# Altium integrated library NODEMCU_DEVKIT_V1.0.IntLib: 13 symbols
Pins are listed as number, name and electrical type; pins without a type are passive.

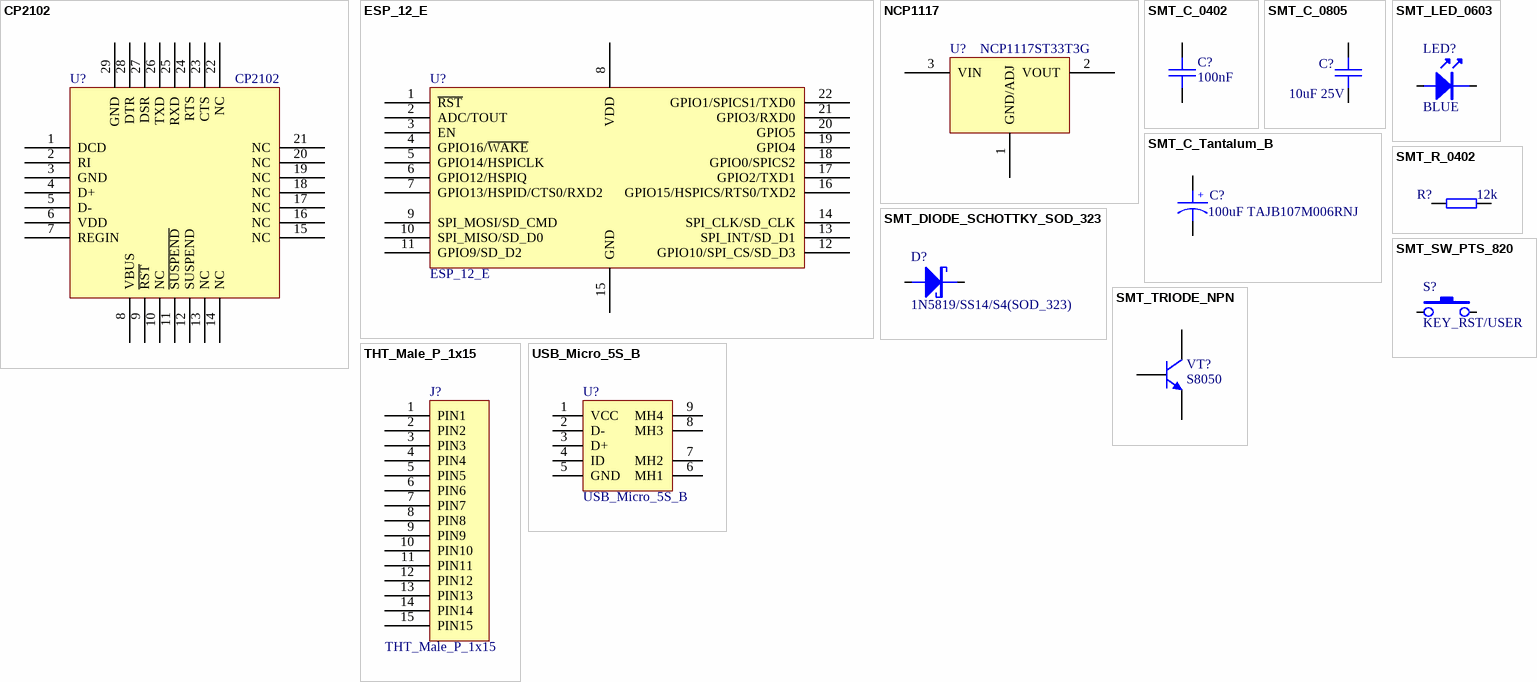
[diagram p0: symbols CP2102 to USB_Micro_5S_B]

## CP2102
designator U?
footprint CP2102
pins: 1 DCD, 2 RI, 3 GND, 4 D+, 5 D-, 6 VDD, 7 REGIN, 8 VBUS, 9 ~{RST}, 10 NC, 11 ~{SUSPEND}, 12 SUSPEND, 13 NC, 14 NC, 15 NC, 16 NC, 17 NC, 18 NC, 19 NC, 20 NC, 21 NC, 22 NC, 23 CTS, 24 RTS, 25 RXD, 26 TXD, 27 DSR, 28 DTR, 29 GND

## ESP_12_E
designator U?
ESP-12 Wi-Fi Module by AI-Thinker; IC: ESP8266-EX; Vendor: Ai-thinker
footprint ESP_12_E (ESP-12 Wi-Fi Module by AI-Thinker)
footprint ESP_12_E_L (ESP-12 Wi-Fi Module by AI-Thinker)
pins: 1 ~{RST} "Reset", 2 ADC/TOUT "ADC Input Or TOUT Output", 3 EN "Chip enable", 4 GPIO16/~{WAKE} "GPIO16 or Deep-Sleep Wakeup", 5 GPIO14/HSPICLK "GPIO14 or SPI CLK", 6 GPIO12/HSPIQ "GPIO12 or SPIQ", 7 GPIO13/HSPID/CTS0/RXD2 "GPIO13 or SPID", 8 VDD "Power supply", 9 SPI_MOSI/SD_CMD "GPIO14 or SPI CLK", 10 SPI_MISO/SD_D0 "GPIO12 or SPIQ", 11 GPIO9/SD_D2 "GPIO13 or SPID", 12 GPIO10/SPI_CS/SD_D3 "GPIO15 or SPICS", 13 SPI_INT/SD_D1 "GPIO2 or TX", 14 SPI_CLK/SD_CLK "GPIO0 or SPICS2", 15 GND "Power ground", 16 GPIO15/HSPICS/RTS0/TXD2 "GPIO15 or SPICS", 17 GPIO2/TXD1 "GPIO2 or TX", 18 GPIO0/SPICS2 "GPIO0 or SPICS2", 19 GPIO4 "GPIO5", 20 GPIO5 "GPIO4", 21 GPIO3/RXD0 "GPIO3 or UART RXD", 22 GPIO1/SPICS1/TXD0 "GPIO1 or UART TXD"

## NCP1117
designator U?, comment NCP1117ST33T3G
NCP1117, NCV1117. 1.0 A Low-Dropout Positive  Fixed and Adjustable  Voltage Regulators
footprint SOT-223 (3 LEAD SOT-223 PLASTIC PACKAGE)
pins: 1 GND/ADJ "Ground or Adjust", 2 VOUT "Voltage Output", 3 VIN "Voltage Input"

## SMT_C_0402
designator C?, comment 100nF
Surface mount capacitor 0402
footprint SMT_C_0402 (Surface mount capacitor 0402)
pins: 1, 2

## SMT_C_0805
designator C?, comment 10uF 25V
Surface mount capacitor 0805
footprint SMT_C_0805 (Surface mount capacitor 0805)
pins: 1, 2

## SMT_C_Tantalum_B
designator C?, comment 100uF TAJB107M006RNJ
Capacitor, SM Tantalum; Body 3.5 x 2.8 mm (LxW typ)
footprint SMT_C_Tantalum_B (Capacitor, SM Tantalum; Body 3.5 x 2.8 mm (LxW typ))
pins: 1, 2
text: +

## SMT_DIODE_SCHOTTKY_SOD_323
designator D?, comment 1N5819/SS14/S4(SOD_323)
Surface mount schottky diode SOD-323(0805) Package
footprint SMT_DIODE_SOD_323 (SOD-323(0805) Package)
pins: 1 A, 2 K

## SMT_LED_0603
designator LED?, comment BLUE
SMT LED
footprint SMT_LED_0603 (SMT LED)
pins: 1 A, 2 K

## SMT_R_0402
designator R?, comment 12k
Surface mount resistor 0402
footprint SMT_R_0402 (Surface mount resistor 0402)
pins: 1, 2

## SMT_SW_PTS_820
designator S?, comment KEY_RST/USER
SMT Tactile ‎Switch PTS 820 Series
footprint SMT_SW_PTS_820 (SMT Switch PTS 820)
pins: 1, 2

## SMT_TRIODE_NPN
designator VT?, comment S8050
Surface mount NPN transistor, package SOT-23
footprint SMT_TRIODE_NPN (Surface mount NPN transistor, package SOT-23)
pins: 1 B, 2 E, 3 C

## THT_Male_P_1x15
designator J?
THT Male pin header strip 1x15
footprint THT_Male_P_1x15-2.54mm (THT Male pin header strip 1x15 2.54mm pitch)
pins: 1 PIN1, 2 PIN2, 3 PIN3, 4 PIN4, 5 PIN5, 6 PIN6, 7 PIN7, 8 PIN8, 9 PIN9, 10 PIN10, 11 PIN11 "Power supply", 12 PIN12 "Power supply", 13 PIN13 "Power supply", 14 PIN14 "Power supply", 15 PIN15 "Power supply"

## USB_Micro_5S_B
designator U?
USB micro female SMT with 4 fixed foot
footprint USB_MICRO_5S_B (USB Micro SMT 5S B)
pins: 1 VCC, 2 D-, 3 D+, 4 ID, 5 GND, 6 MH1, 7 MH2, 8 MH3, 9 MH4